# Altium schematic symbol library Fuse-Chem.Schlib: 1 symbol
Pins are listed as number, name and electrical type; pins without a type are passive.

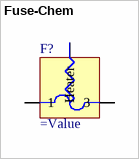
[diagram p0: symbol Fuse-Chem]

## Fuse-Chem
designator F?
Chemical Fuse
pins: 1, 2 Heater, 3